# Altium integrated library BPW34.IntLib: 1 symbol
Pins are listed as number, name and electrical type; pins without a type are passive.

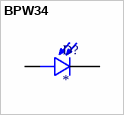
[diagram p0: symbol BPW34]

## BPW34
designator D?
Photodiode 850nm 20ns 120Â° 2-DIP (0.213, 5.40mm); MF: OSRAM Opto Semiconductors; MP: BPW 34; SnapEDA_Link: https://www.snapeda.com/parts/BPW%2034/OSRAM/view-part/?ref=snap; Package: SMD-2 OSRAM Opto Semiconductors; Value: *; Check_prices: https://www.snapeda.com/parts/BPW%2034/OSRAM/view-part/?ref=eda
footprint DIO_BPW34
pins: A, C